# Altium footprint library PcbLib1.PcbLib: 15 footprints
Each footprint in its own frame and in the unit in brackets; x right, y up, seen from the top. Pads: shape width x height; smd on the part's side, far side on the other; paste and mask are expansions set on the pad; w line width, h text height; cw(c..) or ccw(c..) is an arc to the next point about the centre after c.
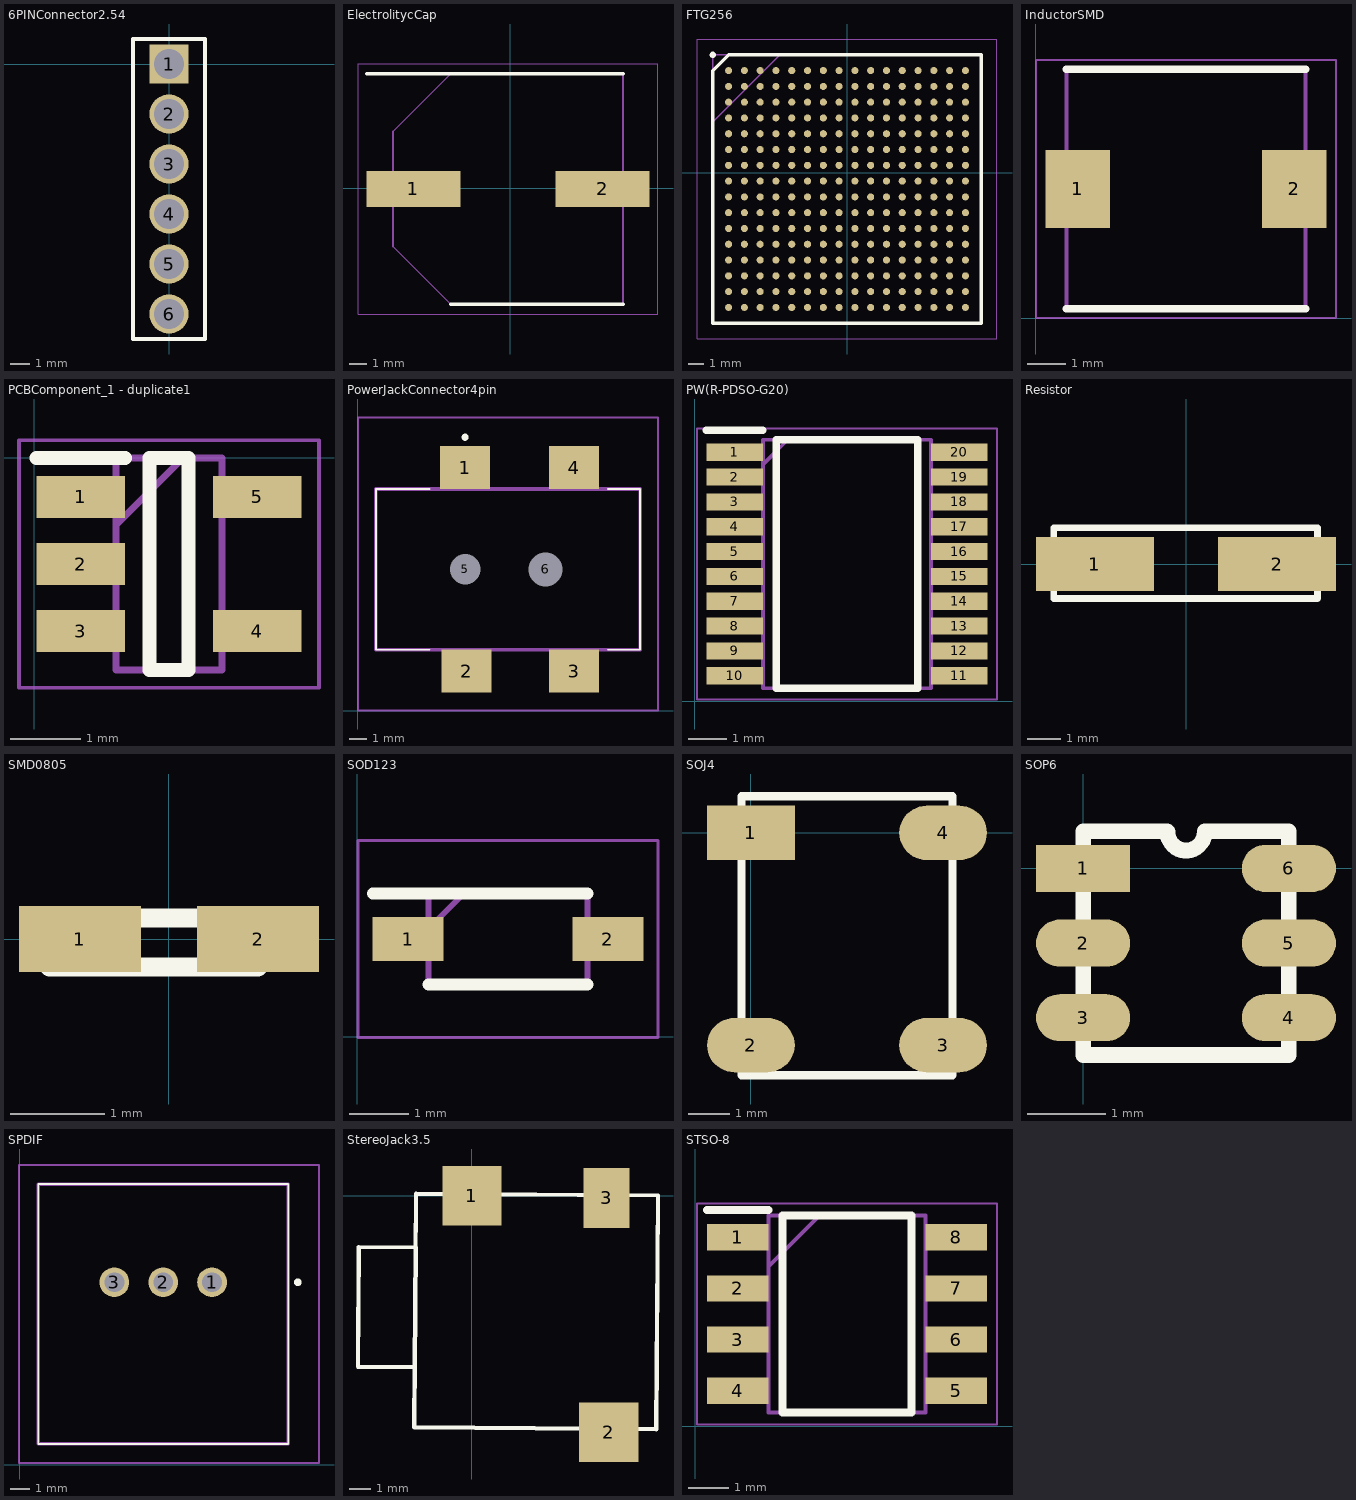
[diagram p0: the footprints below, top view; thin cyan lines are the x and y axes]

## 6PINConnector2.54 [mm]
pads (6):
  rect 2x2 hole 1.5: 1(0,0)
  round 2 hole 1.5: 2(0,-2.54) 3(0,-5.08) 4(0,-7.62) 5(0,-10.16) 6(0,-12.7)
Top Overlay:
  lines w0.2: -0.635,1.27 1.835,1.27 1.835,-13.97 -1.835,-13.97 -1.835,1.27 0.635,1.27

## ElectrolitycCap [mm]
pads (2):
  rect 5.5x2.1 smd: 1(-5.669,-0.046) 2(5.431,-0.046)
Top Overlay:
  lines w0.2: -8.419,6.704 6.631,6.704 ; -3.494,-6.796 6.631,-6.796
Mechanical 13:
  lines w0.1: -6.869,-3.421 -3.494,-6.796 6.631,-6.796 6.631,6.704 -3.494,6.704 -6.869,3.329 -6.869,-3.421
Mechanical 15:
  lines w0.05: -8.919,-7.396 -8.919,7.304 8.681,7.304 8.681,-7.396 -8.919,-7.396
3D body "EEV-EB2W4R7SQ.stp": height 17, standoff 0, extent -7.619,-6.896 7.381,6.804

## FTG256 [mm]
pads (256):
  round 0.45 smd: A1(-7.525,6.475) A2(-6.525,6.475) A3(-5.525,6.475) A4(-4.525,6.475) A5(-3.525,6.475) A6(-2.525,6.475) A7(-1.525,6.475) A8(-0.525,6.475) A9(0.475,6.475) A10(1.475,6.475) A11(2.475,6.475) A12(3.475,6.475) A13(4.475,6.475) A14(5.475,6.475) A15(6.475,6.475) A16(7.475,6.475) B1(-7.525,5.475) B2(-6.525,5.475) B3(-5.525,5.475) B4(-4.525,5.475) B5(-3.525,5.475) B6(-2.525,5.475) B7(-1.525,5.475) B8(-0.525,5.475) B9(0.475,5.475) B10(1.475,5.475) B11(2.475,5.475) B12(3.475,5.475) B13(4.475,5.475) B14(5.475,5.475) B15(6.475,5.475) B16(7.475,5.475) C1(-7.525,4.475) C2(-6.525,4.475) C3(-5.525,4.475) C4(-4.525,4.475) C5(-3.525,4.475) C6(-2.525,4.475) C7(-1.525,4.475) C8(-0.525,4.475) C9(0.475,4.475) C10(1.475,4.475) C11(2.475,4.475) C12(3.475,4.475) C13(4.475,4.475) C14(5.475,4.475) C15(6.475,4.475) C16(7.475,4.475) D1(-7.525,3.475) D2(-6.525,3.475) D3(-5.525,3.475) D4(-4.525,3.475) D5(-3.525,3.475) D6(-2.525,3.475) D7(-1.525,3.475) D8(-0.525,3.475) D9(0.475,3.475) D10(1.475,3.475) D11(2.475,3.475) D12(3.475,3.475) D13(4.475,3.475) D14(5.475,3.475) D15(6.475,3.475) D16(7.475,3.475) E1(-7.525,2.475) E2(-6.525,2.475) E3(-5.525,2.475) E4(-4.525,2.475) E5(-3.525,2.475) E6(-2.525,2.475) E7(-1.525,2.475) E8(-0.525,2.475) E9(0.475,2.475) E10(1.475,2.475) E11(2.475,2.475) E12(3.475,2.475) E13(4.475,2.475) E14(5.475,2.475) E15(6.475,2.475) E16(7.475,2.475) F1(-7.525,1.475) F2(-6.525,1.475) F3(-5.525,1.475) F4(-4.525,1.475) F5(-3.525,1.475) F6(-2.525,1.475) F7(-1.525,1.475) F8(-0.525,1.475) F9(0.475,1.475) F10(1.475,1.475) F11(2.475,1.475) F12(3.475,1.475) F13(4.475,1.475) F14(5.475,1.475) F15(6.475,1.475) F16(7.475,1.475) G1(-7.525,0.475) G2(-6.525,0.475) G3(-5.525,0.475) G4(-4.525,0.475) G5(-3.525,0.475) G6(-2.525,0.475) G7(-1.525,0.475) G8(-0.525,0.475) G9(0.475,0.475) G10(1.475,0.475) G11(2.475,0.475) G12(3.475,0.475) G13(4.475,0.475) G14(5.475,0.475) G15(6.475,0.475) G16(7.475,0.475) H1(-7.525,-0.525) H2(-6.525,-0.525) H3(-5.525,-0.525) H4(-4.525,-0.525) H5(-3.525,-0.525) H6(-2.525,-0.525) H7(-1.525,-0.525) H8(-0.525,-0.525) H9(0.475,-0.525) H10(1.475,-0.525) H11(2.475,-0.525) H12(3.475,-0.525) H13(4.475,-0.525) H14(5.475,-0.525) H15(6.475,-0.525) H16(7.475,-0.525) J1(-7.525,-1.525) J2(-6.525,-1.525) J3(-5.525,-1.525) J4(-4.525,-1.525) J5(-3.525,-1.525) J6(-2.525,-1.525) J7(-1.525,-1.525) J8(-0.525,-1.525) J9(0.475,-1.525) J10(1.475,-1.525) J11(2.475,-1.525) J12(3.475,-1.525) J13(4.475,-1.525) J14(5.475,-1.525) J15(6.475,-1.525) J16(7.475,-1.525) K1(-7.525,-2.525) K2(-6.525,-2.525) K3(-5.525,-2.525) K4(-4.525,-2.525) K5(-3.525,-2.525) K6(-2.525,-2.525) K7(-1.525,-2.525) K8(-0.525,-2.525) K9(0.475,-2.525) K10(1.475,-2.525) K11(2.475,-2.525) K12(3.475,-2.525) K13(4.475,-2.525) K14(5.475,-2.525) K15(6.475,-2.525) K16(7.475,-2.525) L1(-7.525,-3.525) L2(-6.525,-3.525) L3(-5.525,-3.525) L4(-4.525,-3.525) L5(-3.525,-3.525) L6(-2.525,-3.525) L7(-1.525,-3.525) L8(-0.525,-3.525) L9(0.475,-3.525) L10(1.475,-3.525) L11(2.475,-3.525) L12(3.475,-3.525) L13(4.475,-3.525) L14(5.475,-3.525) L15(6.475,-3.525) L16(7.475,-3.525) M1(-7.525,-4.525) M2(-6.525,-4.525) M3(-5.525,-4.525) M4(-4.525,-4.525) M5(-3.525,-4.525) M6(-2.525,-4.525) M7(-1.525,-4.525) M8(-0.525,-4.525) M9(0.475,-4.525) M10(1.475,-4.525) M11(2.475,-4.525) M12(3.475,-4.525) M13(4.475,-4.525) M14(5.475,-4.525) M15(6.475,-4.525) M16(7.475,-4.525) N1(-7.525,-5.525) N2(-6.525,-5.525) N3(-5.525,-5.525) N4(-4.525,-5.525) N5(-3.525,-5.525) N6(-2.525,-5.525) N7(-1.525,-5.525) N8(-0.525,-5.525) N9(0.475,-5.525) N10(1.475,-5.525) N11(2.475,-5.525) N12(3.475,-5.525) N13(4.475,-5.525) N14(5.475,-5.525) N15(6.475,-5.525) N16(7.475,-5.525) P1(-7.525,-6.525) P2(-6.525,-6.525) P3(-5.525,-6.525) P4(-4.525,-6.525) P5(-3.525,-6.525) P6(-2.525,-6.525) P7(-1.525,-6.525) P8(-0.525,-6.525) P9(0.475,-6.525) P10(1.475,-6.525) P11(2.475,-6.525) P12(3.475,-6.525) P13(4.475,-6.525) P14(5.475,-6.525) P15(6.475,-6.525) P16(7.475,-6.525) R1(-7.525,-7.525) R2(-6.525,-7.525) R3(-5.525,-7.525) R4(-4.525,-7.525) R5(-3.525,-7.525) R6(-2.525,-7.525) R7(-1.525,-7.525) R8(-0.525,-7.525) R9(0.475,-7.525) R10(1.475,-7.525) R11(2.475,-7.525) R12(3.475,-7.525) R13(4.475,-7.525) R14(5.475,-7.525) R15(6.475,-7.525) R16(7.475,-7.525) T1(-7.525,-8.525) T2(-6.525,-8.525) T3(-5.525,-8.525) T4(-4.525,-8.525) T5(-3.525,-8.525) T6(-2.525,-8.525) T7(-1.525,-8.525) T8(-0.525,-8.525) T9(0.475,-8.525) T10(1.475,-8.525) T11(2.475,-8.525) T12(3.475,-8.525) T13(4.475,-8.525) T14(5.475,-8.525) T15(6.475,-8.525) T16(7.475,-8.525)
Top Overlay:
  circle w0.2: c-8.525,7.475 r0.1
  lines w0.2: -8.525,-9.525 8.475,-9.525 8.475,7.475 -7.525,7.475 -8.525,6.475 -8.525,-9.525
Mechanical 13:
  lines w0.1: -8.525,3.225 -4.275,7.475 ; -8.525,-9.525 8.475,-9.525 8.475,7.475 -8.525,7.475 -8.525,-9.525
Mechanical 15:
  lines w0.05: -9.525,-10.525 9.475,-10.525 9.475,8.475 -9.525,8.475 -9.525,-10.525
3D body "XC6SLX16-2FTG256I.stp": height 1.55, standoff 0, extent -8.525,-9.525 8.475,7.475

## InductorSMD [mm] "B82462G4472M"
pads (2):
  rect 1.7x2.05 smd: 1(1.108,3.398) 2(6.808,3.398)
Top Overlay:
  lines w0.2: 0.808,0.248 7.108,0.248 ; 0.808,6.548 7.108,6.548
Mechanical 13:
  lines w0.1: 0.808,0.248 0.808,6.548 7.108,6.548 7.108,0.248 0.808,0.248
Mechanical 15:
  lines w0.05: 0.008,-0.002 0.008,6.798 7.908,6.798 7.908,-0.002 0.008,-0.002
3D body "B82462G4472M000.stp": height 3, standoff 0, extent 0.808,0.248 7.108,6.548

## PCBComponent_1 - duplicate1 [mm]
pads (5):
  rect 1.25x0.6 smd: 1(0.66,-0.557) 2(0.66,-1.507) 3(0.66,-2.457) 4(3.16,-2.457) 5(3.16,-0.557)
Top Overlay:
  lines w0.2: 0.035,-0.007 1.285,-0.007 ; 1.635,-3.007 1.635,-0.007 2.185,-0.007 2.185,-3.007 1.635,-3.007
Mechanical 13:
  lines w0.1: 1.16,-0.957 2.11,-0.007 ; 1.16,-3.007 1.16,-0.007 2.66,-0.007 2.66,-3.007 1.16,-3.007
Mechanical 15:
  lines w0.05: -0.215,-3.257 -0.215,0.243 4.035,0.243 4.035,-3.257 -0.215,-3.257
3D body "NCP703SN28T1G.stp": height 1.1, standoff 0, extent 0.535,-3.007 3.285,-0.007

## PowerJackConnector4pin [mm]
pads (6):
  rect 2.8x2.4 smd: 1(6.016,13.625) 2(6.096,2.225) 3(12.116,2.225) 4(12.116,13.625)
  round 0.85 hole 1.7 unplated: 5(6.016,7.925)
  round 0.95 hole 1.9 unplated: 6(10.516,7.925)
Top Overlay:
  lines w0.1: 4.016,3.425 1.016,3.425 1.016,12.425 4.016,12.425 ; 14.016,3.425 15.816,3.425 15.816,12.425 14.016,12.425
  lines w0.2: 5.916,15.325 ccw(c6.016,15.325) 6.116,15.325 ccw(c6.016,15.325) 5.916,15.325
Mechanical 13:
  lines w0.2: 1.016,3.425 1.016,12.425 15.816,12.425 15.816,3.425 1.016,3.425
Mechanical 15:
  lines w0.1: 0.016,0.025 0.016,16.425 16.816,16.425 16.816,0.025 0.016,0.025
3D body "PJ-002AH-SMT-1.stp": height 11.1, standoff -1.7, extent 1.016,1.265 15.816,14.585

## PW(R-PDSO-G20) [mm]
pads (20):
  rect 1.475x0.45 smd: 1(1.047,6.517) 2(1.047,5.867) 3(1.047,5.217) 4(1.047,4.567) 5(1.047,3.917) 6(1.047,3.267) 7(1.047,2.617) 8(1.047,1.967) 9(1.047,1.317) 10(1.047,0.667) 11(6.923,0.667) 12(6.923,1.317) 13(6.923,1.967) 14(6.923,2.617) 15(6.923,3.267) 16(6.923,3.917) 17(6.923,4.567) 18(6.923,5.217) 19(6.923,5.867) 20(6.923,6.517)
Top Overlay:
  lines w0.2: 0.31,7.092 1.785,7.092 ; 2.135,0.342 5.835,0.342 5.835,6.842 2.135,6.842 2.135,0.342
Mechanical 13:
  lines w0.1: 1.785,6.192 2.435,6.842 ; 1.785,0.342 6.185,0.342 6.185,6.842 1.785,6.842 1.785,0.342
Mechanical 15:
  lines w0.05: 0.06,0.042 7.91,0.042 7.91,7.142 0.06,7.142 0.06,0.042
3D body "PCM5102APWR.stp": height 1.2, standoff 0, extent 0.785,0.342 7.185,6.842

## Resistor [mm] "SMD2512"
pads (2):
  rect 3.5x1.6 smd: 1(-2.7,0) 2(2.7,0)
Top Overlay:
  lines w0.2: -3.925,-1.025 -3.925,0.075 -3.925,1.075 3.9,1.075 3.9,-1.025 -3.925,-1.025

## SMD0805 [mm]
pads (2):
  rect 1.3x0.7 smd: 1(-0.95,0) 2(0.95,0)
Top Overlay:
  lines w0.2: -1.275,-0.3 0.95,-0.3 ; -1.275,-0.275 -1.275,0.225 0.95,0.225 0.95,-0.275

## SOD123 [mm]
pads (2):
  rect 1.2x0.75 smd: 1(0.862,1.663) 2(4.262,1.663)
Top Overlay:
  lines w0.2: 0.262,2.438 3.912,2.438 ; 1.212,0.888 3.912,0.888
Mechanical 13:
  lines w0.1: 1.212,1.838 1.812,2.438 ; 1.212,0.888 3.912,0.888 3.912,2.438 1.212,2.438 1.212,0.888
Mechanical 15:
  lines w0.05: 0.012,-0.012 5.112,-0.012 5.112,3.338 0.012,3.338 0.012,-0.012
3D body "1N5819HW-7-F.stp": height 1.45, standoff 0, extent 0.712,0.888 4.412,2.438

## SOJ4 [mm]
pads (4):
  rect 2.1x1.3 smd: 1(0,0)
  oval 2.1x1.3 smd: 2(0,-5.08) 3(4.6,-5.08) 4(4.6,0)
Top Overlay:
  lines w0.2: -0.225,-5.8 4.825,-5.8 4.825,0.875 -0.225,0.875 -0.225,-5.8

## SOP6 [mm]
pads (6):
  rect 1.2x0.6 smd: 1(0,0)
  oval 1.2x0.6 smd: 2(0,-0.95) 3(0,-1.9) 4(2.62,-1.9) 5(2.62,-0.95) 6(2.62,0)
Top Overlay:
  lines w0.2: 1.072,0.475 0,0.475 0,-2.375 2.62,-2.375 2.62,0.475 1.548,0.475 ; 1.074,0.466 ccw(c1.311,0.466) 1.549,0.466

## SPDIF [mm]
pads (3):
  round 1.545 hole 1.03: 1(10.012,9.484) 2(7.472,9.484) 3(4.932,9.484)
Top Overlay:
  lines w0.1: 0.972,1.084 13.972,1.084 13.972,14.584 0.972,14.584 0.972,1.084
  lines w0.2: 14.472,9.384 cw(c14.472,9.484) 14.472,9.584 cw(c14.472,9.484) 14.472,9.384
Mechanical 13:
  lines w0.2: 0.972,1.084 13.972,1.084 13.972,14.584 0.972,14.584 0.972,1.084
Mechanical 15:
  lines w0.1: -0.028,0.084 15.572,0.084 15.572,15.584 -0.028,15.584 -0.028,0.084
3D body "TORX1355_F_.stp": height 8, standoff -5, extent 0.972,1.084 13.972,14.584

## StereoJack3.5 [mm]
pads (3):
  rect 2.7x2.7 smd: 1(0,0) 2(6.25,-10.8)
  rect 2.1x2.75 smd: 3(6.15,-0.1)
Top Overlay:
  lines w0.2: -5.197,-7.816 -2.601,-7.835 -2.561,-2.361 -5.157,-2.342 -5.197,-7.816 ; -2.628,-10.578 -2.55,0.088 8.499,0.007 8.422,-10.658 -2.628,-10.578

## STSO-8 [mm]
pads (8):
  rect 1.525x0.65 smd: 1(1.058,4.698) 2(1.058,3.428) 3(1.058,2.158) 4(1.058,0.888) 5(6.482,0.888) 6(6.482,2.158) 7(6.482,3.428) 8(6.482,4.698)
Top Overlay:
  lines w0.2: 0.295,5.373 1.82,5.373 ; 2.17,0.343 2.17,5.243 5.37,5.243 5.37,0.343 2.17,0.343
Mechanical 13:
  lines w0.1: 1.82,3.973 3.09,5.243 ; 1.82,0.343 1.82,5.243 5.72,5.243 5.72,0.343 1.82,0.343
Mechanical 15:
  lines w0.05: 0.045,0.043 0.045,5.543 7.495,5.543 7.495,0.043 0.045,0.043
3D body "NE555DR.stp": height 1.75, standoff 0, extent 0.77,0.343 6.77,5.243